# Altium footprint library epic.PcbLib: 16 footprints
Each footprint in its own frame and in the unit in brackets; x right, y up, seen from the top. Pads: shape width x height; smd on the part's side, far side on the other; paste and mask are expansions set on the pad; w line width, h text height; cw(c..) or ccw(c..) is an arc to the next point about the centre after c.
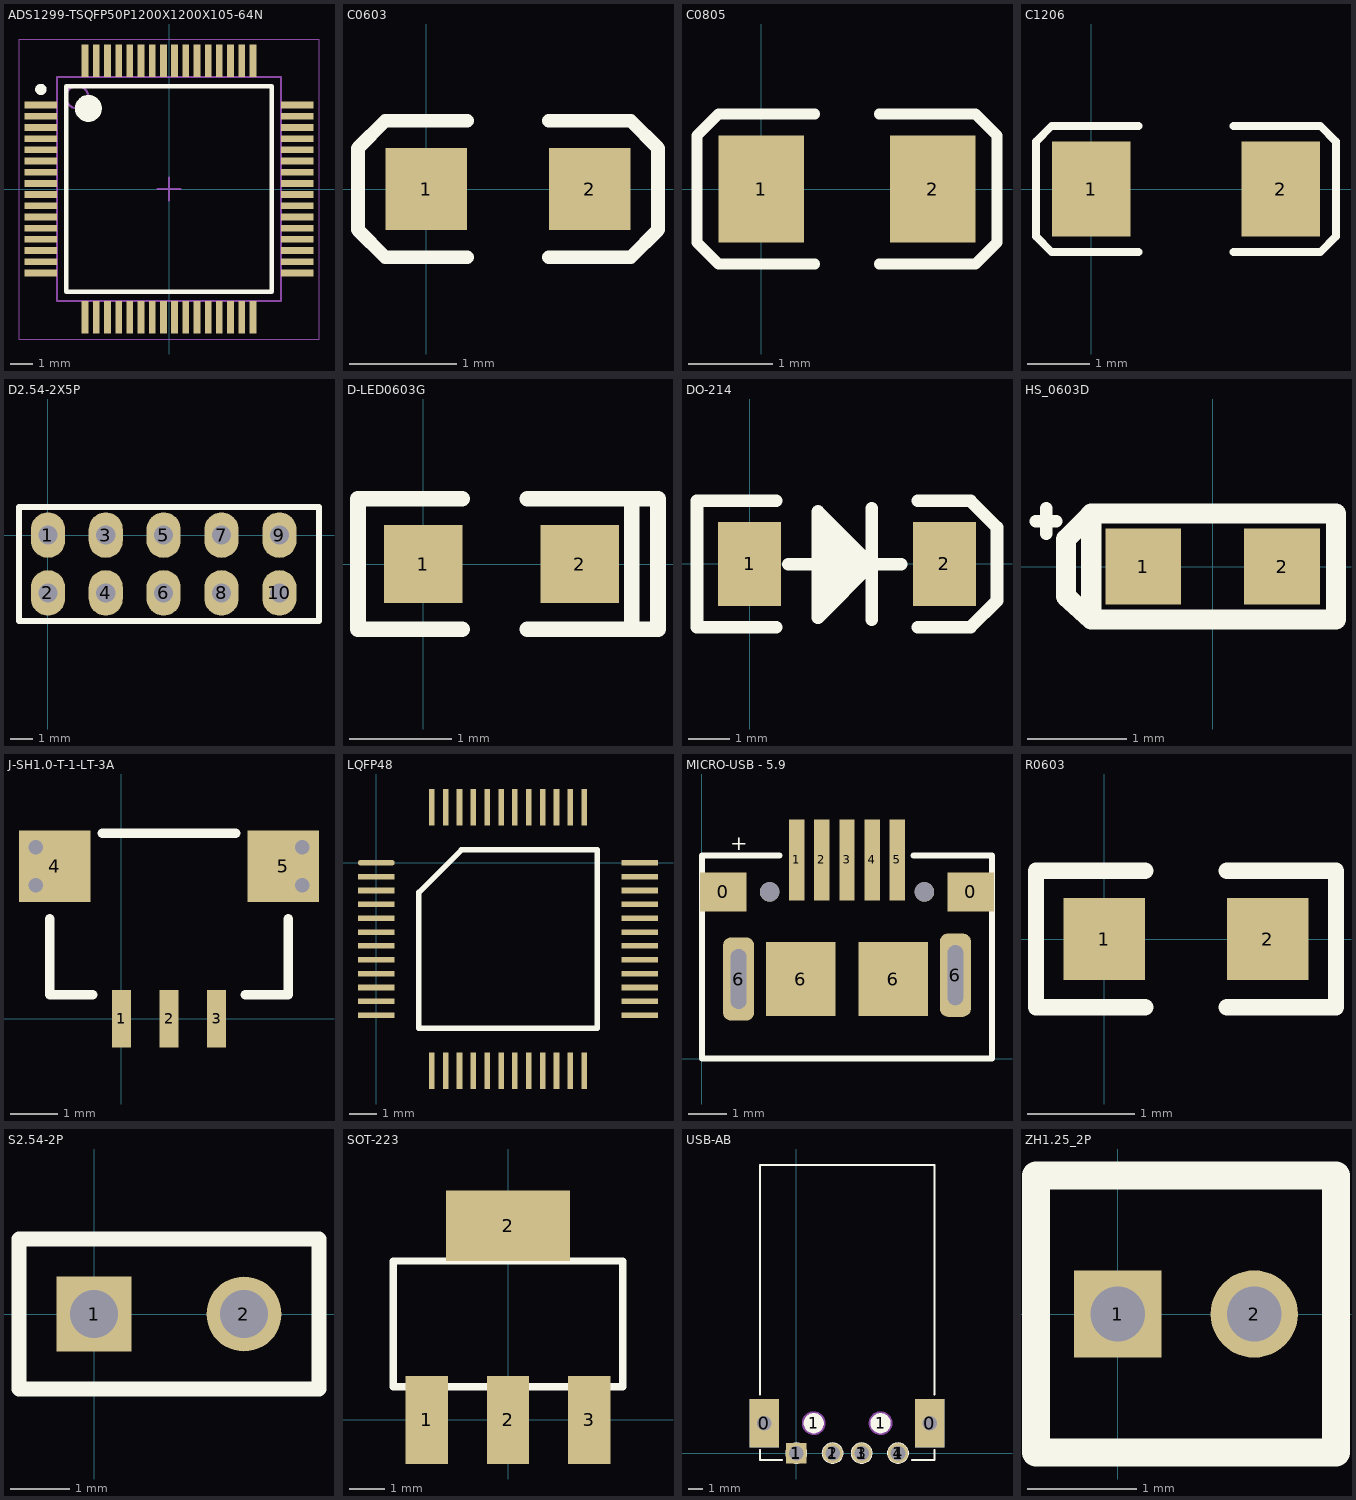
[diagram p0: the footprints below, top view; thin cyan lines are the x and y axes]

## ADS1299-TSQFP50P1200X1200X105-64N [mm] "TSQFP, 64-Leads, Body 10.00x10.00mm, Pitch 0.50mm, IPC Medium Density"
height 1.05
pads (64):
  rect 1.45x0.3 smd: 1(-5.725,3.75) 2(-5.725,3.25) 3(-5.725,2.75) 4(-5.725,2.25) 5(-5.725,1.75) 6(-5.725,1.25) 7(-5.725,0.75) 8(-5.725,0.25) 9(-5.725,-0.25) 10(-5.725,-0.75) 11(-5.725,-1.25) 12(-5.725,-1.75) 13(-5.725,-2.25) 14(-5.725,-2.75) 15(-5.725,-3.25) 16(-5.725,-3.75) 33(5.725,-3.75) 34(5.725,-3.25) 35(5.725,-2.75) 36(5.725,-2.25) 37(5.725,-1.75) 38(5.725,-1.25) 39(5.725,-0.75) 40(5.725,-0.25) 41(5.725,0.25) 42(5.725,0.75) 43(5.725,1.25) 44(5.725,1.75) 45(5.725,2.25) 46(5.725,2.75) 47(5.725,3.25) 48(5.725,3.75)
  rect 0.3x1.45 smd: 17(-3.75,-5.725) 18(-3.25,-5.725) 19(-2.75,-5.725) 20(-2.25,-5.725) 21(-1.75,-5.725) 22(-1.25,-5.725) 23(-0.75,-5.725) 24(-0.25,-5.725) 25(0.25,-5.725) 26(0.75,-5.725) 27(1.25,-5.725) 28(1.75,-5.725) 29(2.25,-5.725) 30(2.75,-5.725) 31(3.25,-5.725) 32(3.75,-5.725) 49(3.75,5.725) 50(3.25,5.725) 51(2.75,5.725) 52(2.25,5.725) 53(1.75,5.725) 54(1.25,5.725) 55(0.75,5.725) 56(0.25,5.725) 57(-0.25,5.725) 58(-0.75,5.725) 59(-1.25,5.725) 60(-1.75,5.725) 61(-2.25,5.725) 62(-2.75,5.725) 63(-3.25,5.725) 64(-3.75,5.725)
Top Overlay:
  circle w0.25: c-5.725,4.45 r0.125
  circle w0.6: c-3.6,3.6 r0.3
  lines w0.2: -4.6,-4.6 -4.6,4.6 4.6,4.6 4.6,-4.6 -4.6,-4.6
Mechanical 13:
  circle w0.1: c-4.1,4.1 r0.5
  lines w0.1: -5,-5 -5,5 5,5 5,-5 -5,-5
Mechanical 15:
  lines w0.05: -6.7,-6.7 -6.7,6.7 6.7,6.7 6.7,-6.7 -6.7,-6.7
  lines w0.1: -0.5,0 0.5,0 ; 0,-0.5 0,0.5
3D body: height 1.05, standoff 0.25, extent -5,-5 5,5

## C0603 [mil]
height 12
pads (2):
  rect 30x30 smd: 1(0,0) 2(60,0)
Top Overlay:
  lines w5: 15,-25 -15,-25 -25,-15 -25,15 -15,25 15,25 ; 45,-25 75,-25 85,-15 85,15 75,25 45,25
3D body "C0603.STEP": height 11.89, standoff 0, extent -1.5,-15.5 61.5,16

## C0805 [mil]
height 15
pads (2):
  rect 40x50 smd: 1(0,0) 2(80,0)
Top Overlay:
  lines w5: 25,-35 -20,-35 -30,-25 -30,25 -20,35 25,35 ; 55,-35 100,-35 110,-25 110,25 100,35 55,35
3D body "C0805.STEP": height 37.4, standoff 0, extent 0.63,-23.24 79.37,24

## C1206 [mil]
height 20
pads (2):
  rect 50x60 smd: 1(0,0) 2(120,0)
Top Overlay:
  lines w5: 30,-40 -25,-40 -35,-30 -35,30 -25,40 30,40 ; 90,-40 145,-40 155,-30 155,30 145,40 90,40
3D body "C1206.STEP": height 39.45, standoff 0, extent -2.99,-31.99 122.99,31

## D2.54-2X5P [mm] "DUAL_ROW_Pin_R2.54-5P"
pads (10):
  oval 1.5x2 hole 0.838: 1(0,0) 2(0,-2.54) 3(2.54,0) 4(2.54,-2.54) 5(5.08,0) 6(5.08,-2.54) 7(7.62,0) 8(7.62,-2.54) 9(10.16,0) 10(10.16,-2.54)
Top Overlay:
  lines w0.254: -1.27,-3.77 -1.27,1.23 11.9,1.23 11.9,-3.77 -1.27,-3.77
3D body: height 2.54, standoff 0, extent -1.27,-3.817 11.6,1.263
3D body: height 10, standoff -4, extent 7.222,-2.939 8.019,-2.141
3D body: height 10, standoff -4, extent 4.682,-2.939 5.479,-2.141
3D body: height 10, standoff -4, extent 2.142,-2.939 2.939,-2.141
3D body: height 10, standoff -4, extent -0.398,-2.939 0.399,-2.141
3D body: height 10, standoff -4, extent 7.222,-0.399 8.019,0.399
3D body: height 10, standoff -4, extent 4.682,-0.399 5.479,0.399
3D body: height 10, standoff -4, extent 2.142,-0.399 2.939,0.399
3D body: height 10, standoff -4, extent -0.398,-0.399 0.399,0.399
3D body: height 10, standoff -4, extent 9.762,-2.939 10.559,-2.141
3D body: height 10, standoff -4, extent 9.762,-0.399 10.559,0.399

## D-LED0603G [mil]
height 39.37
pads (2):
  rect 30x30 smd: 1(0,0) 2(60,0)
Top Overlay:
  lines w6: 15,-25 -25,-25 -25,25 15,25 ; 40,-25 90,-25 90,25 40,25 ; 80,-25 80,25
3D body "LED_0603_GREEN.STEP": height 23.62, standoff 0, extent -1.89,-16.5 61.89,15

## DO-214 [mil]
height 267.72
pads (2):
  rect 60x80 smd: 1(0,0) 2(185,0)
Top Overlay:
  region: 64.92,-25.05 91,-25.05 91,22.87 64.92,22.87
  lines w12: 25,-60 -50,-60 -50,60 25,60 ; 36.92,-0.13 143.92,-0.13 ; 64.92,33.87 100.29,-1.51 66.66,-35.13 ; 115.92,-53.13 115.92,52.87 ; 160,-60 209.92,-60 235,-34.92 235,34.87 209.87,60 160,60 ; 64.92,-51.13 115.92,-0.13 115.92,-1.13 64.92,49.87 64.92,-51.13

## HS_0603D [mil]
height 100
pads (2):
  rect 30x30 smd: 1(-27.5,0) 2(27.5,0)
Top Overlay:
  lines w5: -70,18 -62,18 ; -66,13 -66,23
  lines w8: -49,20 -58.12,10.88 -58.12,-11.87 -48.12,-21 ; -48.12,20 -48.12,-21 ; -48.12,21 48.88,21 48.88,-21 -48.12,-21

## J-SH1.0-T-1-LT-3A [mm]
pads (5):
  rect 0.4x1.2 smd: 1(0,0) 2(1,0) 3(2,0)
  rect 1.5x1.5 smd: 4(-1.4,3.2) 5(3.4,3.2)
via 3.8,2.8 diameter 0.508 hole 0.305
via 3.8,3.6 diameter 0.508 hole 0.305
via -1.8,2.8 diameter 0.508 hole 0.305
via -1.8,3.6 diameter 0.508 hole 0.305
Top Overlay:
  lines w0.2: -1.5,2.1 -1.5,0.5 -0.6,0.5 ; -0.4,3.9 2.4,3.9 ; 2.6,0.5 3.5,0.5 3.5,2.1

## LQFP48 [mm]
pads (48):
  oval 1.321x0.2 smd: 1(0,0)
  rect 1.321x0.2 smd: 2(0,-0.5) 3(0,-1) 4(0,-1.5) 5(0,-2) 6(0,-2.5) 7(0,-3) 8(0,-3.5) 9(0,-4) 10(0,-4.5) 11(0,-5) 12(0,-5.5) 25(9.5,-5.5) 26(9.5,-5) 27(9.5,-4.5) 28(9.5,-4) 29(9.5,-3.5) 30(9.5,-3) 31(9.5,-2.5) 32(9.5,-2) 33(9.5,-1.5) 34(9.5,-1) 35(9.5,-0.5) 36(9.5,0)
  rect 0.2x1.321 smd: 13(2,-7.5) 14(2.5,-7.5) 15(3,-7.5) 16(3.5,-7.5) 17(4,-7.5) 18(4.5,-7.5) 19(5,-7.5) 20(5.5,-7.5) 21(6,-7.5) 22(6.5,-7.5) 23(7,-7.5) 24(7.5,-7.5) 37(7.5,2) 38(7,2) 39(6.5,2) 40(6,2) 41(5.5,2) 42(5,2) 43(4.5,2) 44(4,2) 45(3.5,2) 46(3,2) 47(2.5,2) 48(2,2)
Top Overlay:
  lines w0.2: 1.535,-5.965 7.965,-5.965 7.965,0.465 3.07,0.465 1.535,-1.07 1.535,-5.965

## MICRO-USB - 5.9 [mm]
pads (13):
  rect 1.2x1 smd: 0(0.55,4.307) 0(6.95,4.307)
  rect 0.4x2.1 smd: 1(2.45,5.132) 2(3.1,5.132) 3(3.75,5.132) 4(4.4,5.132) 5(5.05,5.132)
  rrect50% 0.8x2.15 hole 0.4 slot 1.55 at 90 deg: 6(0.95,2.057) 6(6.55,2.157)
  rect 1.8x1.9 smd: 6(2.556,2.057) 6(4.943,2.057)
  round 0.5 hole 0.5 unplated: ""(1.75,4.307) ""(5.75,4.307)
Top Overlay:
  lines w0.152: 2.007,5.25 0,5.25 0,0 7.5,0 7.5,5.25 5.469,5.25
  text "+" at 0.737,5.385 h0.4

## R0603 [mil]
height 12
pads (2):
  rect 30x30 smd: 1(0,0) 2(60,0)
Top Overlay:
  lines w6: 15,-25 -25,-25 -25,25 15,25 ; 45,-25 85,-25 85,25 45,25
3D body "R0603.STEP": height 17.72, standoff 0, extent -0.5,-16 62.5,15.5

## S2.54-2P [mil]
pads (2):
  rect 50x50 hole 32: 1(0,0)
  round 50 hole 32: 2(100,0)
Top Overlay:
  lines w10: -50,-50 -50,50 150,50 150,-50 -50,-50
3D body: height 314.96, standoff -78.74, extent 84,-16 115.37,15.43
3D body: height 314.96, standoff -78.74, extent -16,-16 15.37,15.43
3D body: height 100, standoff 0, extent -50,-50 150,50

## SOT-223 [mm]
pads (4):
  rect 1.2x2.5 smd: 1(-2.3,0) 2(0,0) 3(2.3,0)
  rect 3.5x2 smd: 2(0,5.5)
Top Overlay:
  lines w0.203: -3.25,0.94 3.25,0.94 3.25,4.5 -3.25,4.5 -3.25,0.94

## USB-AB [mm]
pads (42):
  rect 2x3.3 hole 1 square: 0(-2.199,2.06) 0(9.18,2.06)
  round 0.127 on Mech4: 1(-2.59,1.32) 1(-2.59,1.32) 1(-2.59,2.8) 1(-2.59,2.8) 1(-2.5,-0.47) 1(-2.5,-0.47) 1(-2.5,0.23) 1(-2.5,4.03) 1(-2.5,19.83) 1(-2.5,19.83) 1(-1.79,1.32) 1(-1.79,1.32) 1(-1.79,2.8) 1(-1.79,2.8) 1(-0.973,-0.47) 1(7.969,-0.47) 1(8.79,1.32) 1(8.79,1.32) 1(8.79,2.8) 1(8.79,2.8) 1(9.5,-0.47) 1(9.5,-0.47) 1(9.5,0.23) 1(9.5,4.03) 1(9.5,19.83) 1(9.5,19.83) 1(9.59,1.32) 1(9.59,1.32) 1(9.59,2.8) 1(9.59,2.8)
  rect 1.397x1.397 hole 1: 1(0,0)
  round 1.5 on Top Overlay: 1(0,0) 1(2.5,0) 1(4.5,0) 1(7,0)
  round 1.4 on Top Overlay: 1(1.2,2.06) 1(5.8,2.06)
  round 1.397 hole 1: 2(2.5,0) 3(4.5,0) 4(7,0)
Top Overlay:
  region: -3.19,3.71 -1.19,3.71 -1.19,0.41 -3.19,0.41
  region: 8.19,3.71 10.19,3.71 10.19,0.41 8.19,0.41
  lines w0.127: -2.5,0.23 -2.5,-0.47 -0.973,-0.47 ; -2.5,4.03 -2.5,19.83 9.5,19.83 9.5,4.03 ; 7.969,-0.47 9.5,-0.47 9.5,0.23
Mechanical 1:
  circle w0.254: c1.2,2.06 r0.692
  circle w0.254: c5.8,2.06 r0.692
  lines w0.127: -2.59,1.32 ccw(c-2.19,1.32) -1.79,1.32 -1.79,2.8 ccw(c-2.19,2.8) -2.59,2.8 -2.59,1.32 ; 8.79,1.32 ccw(c9.19,1.32) 9.59,1.32 9.59,2.8 ccw(c9.19,2.8) 8.79,2.8 8.79,1.32

## ZH1.25_2P [mm] "ZH1.25的电池"
pads (2):
  rect 0.8x0.8 hole 0.5: 1(0,0)
  round 0.8 hole 0.5: 2(1.25,0)
Top Overlay:
  lines w0.254: -0.75,-1.27 -0.75,1.27 2,1.27 2,-1.27 -0.75,-1.27
3D body: height 8, standoff -2, extent -0.406,-0.406 0.39,0.392